# Altium footprint library QFN-16, 4mm x 4mm, 0.65mm.PcbLib: 1 footprints
Each footprint in its own frame and in the unit in brackets; x right, y up, seen from the top. Pads: shape width x height; smd on the part's side, far side on the other; paste and mask are expansions set on the pad; w line width, h text height; cw(c..) or ccw(c..) is an arc to the next point about the centre after c.
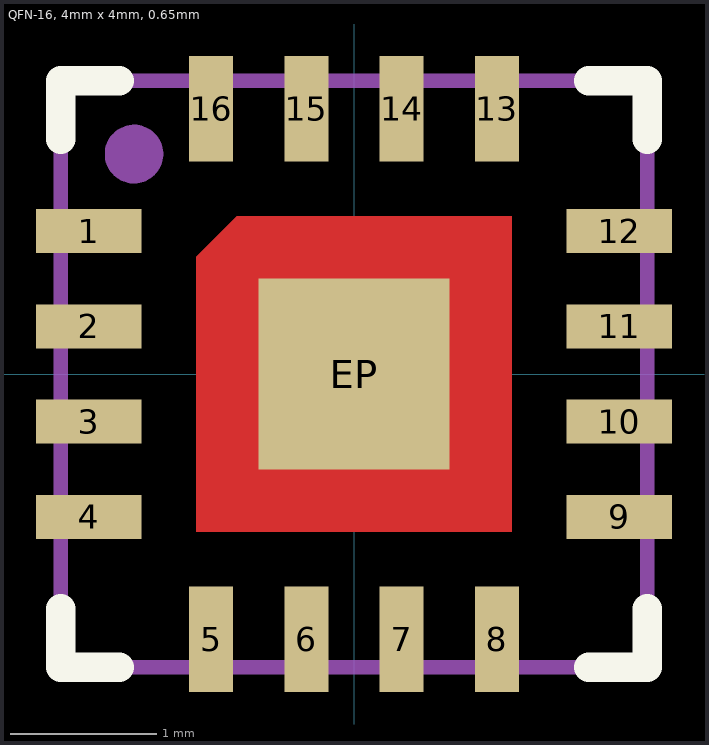
[diagram p0: the footprint, top view; thin cyan lines are the x and y axes]

## QFN-16, 4mm x 4mm, 0.65mm [mm] "QFN-16, 4mm x 4mm, 0.65mm"
height 0.75
pads (17):
  rect 0.72x0.3 smd mask+0.05: 1(-1.81,0.975) 2(-1.81,0.325) 3(-1.81,-0.325) 4(-1.81,-0.975) 9(1.81,-0.975) 10(1.81,-0.325) 11(1.81,0.325) 12(1.81,0.975)
  rect 0.3x0.72 smd mask+0.05: 5(-0.975,-1.81) 6(-0.325,-1.81) 7(0.325,-1.81) 8(0.975,-1.81) 13(0.975,1.81) 14(0.325,1.81) 15(-0.325,1.81) 16(-0.975,1.81)
  rect 1.3x1.3 smd mask+0.05: EP(0,0)
Top Layer:
  region: 1.075,1.075 1.075,-1.075 -1.075,-1.075 -1.075,0.8 -0.8,1.075
Top Overlay:
  lines w0.2: -2,-1.6 -2,-2 -1.6,-2 ; -2,1.6 -2,2 -1.6,2 ; 1.6,-2 2,-2 2,-1.6 ; 1.6,2 2,2 2,1.6
Top Solder:
  region: 1.125,1.125 1.125,-1.125 -1.125,-1.125 -1.125,0.821 -0.821,1.125
Top Assembly:
  circle w0.2: c-1.5,1.5 r0.1
  lines w0.1: -2,-2 2,-2 2,2 -2,2 -2,-2
Top Designator:
  text ".Designator" at -2.5,-3.175 h1.2
Top Component Center:
  lines w0.1: -0.3,0 0.3,0 ; 0,-0.3 0,0.3
3D body "QFN-16, 4mm x 4mm, 0.65mm.step": height 0.92, standoff 0, extent -2,-2 2,2